# EAGLE library part 6PIN (library JST_ePH)
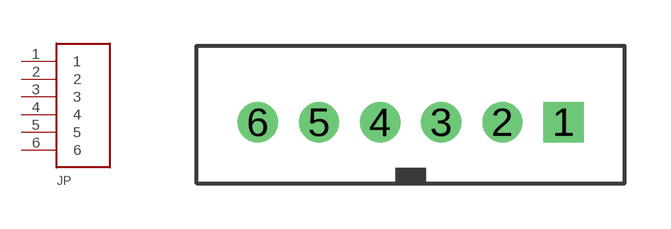
[diagram p0: symbol with the pads of B6B-PH-K-S; footprint B6B-PH-K-S]

Designator prefix JP

## 6PIN  [B6B-PH-K-S]
1  1
2  2
3  3
4  4
5  5
6  6

## Footprint B6B-PH-K-S (pad centres in mm)
drill 0.813 square: 1 5,0
drill 0.813 round: 2 3,0; 3 1,0; 4 -1,0; 5 -3,0; 6 -5,0